# EAGLE library part PHB_1MM27_2X25_* (library _hhn_con_pinhead_box_1mm27)
Pin Header Box-Type, 1.27mm/0.5"/50mil Pitch, 2x25 Circuits Note: see library description for an important note about THT-version
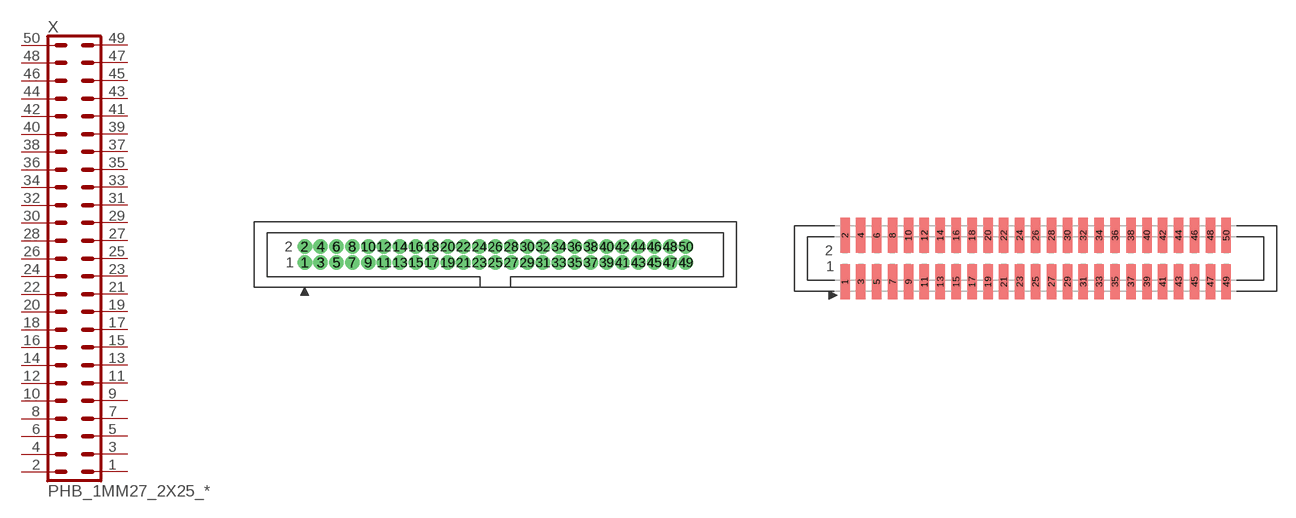
[diagram p6: symbol with the pads of PHB_1MM27_2X25_SNT; footprints PHB_1MM27_2X25_SNT, PHB_1MM27_2X25_SNS]

Designator prefix X

## PHB_1MM27_2X25_SNT  [PHB_1MM27_2X25_SNT]
1  1  pas
2  2  pas
3  3  pas
4  4  pas
5  5  pas
6  6  pas
7  7  pas
8  8  pas
9  9  pas
10  10  pas
11  11  pas
12  12  pas
13  13  pas
14  14  pas
15  15  pas
16  16  pas
17  17  pas
18  18  pas
19  19  pas
20  20  pas
21  21  pas
22  22  pas
23  23  pas
24  24  pas
25  25  pas
26  26  pas
27  27  pas
28  28  pas
29  29  pas
30  30  pas
31  31  pas
32  32  pas
33  33  pas
34  34  pas
35  35  pas
36  36  pas
37  37  pas
38  38  pas
39  39  pas
40  40  pas
41  41  pas
42  42  pas
43  43  pas
44  44  pas
45  45  pas
46  46  pas
47  47  pas
48  48  pas
49  49  pas
50  50  pas

## PHB_1MM27_2X25_SNS  [PHB_1MM27_2X25_SNS]
Pads as for PHB_1MM27_2X25_SNT

## Footprint PHB_1MM27_2X25_SNT (pad centres in mm)
Pin Header Box-Type, 1.27mm Pitch, 2x25 circuits, Straight, No Locking, THT Important Note regarding to THT-versions: see description of library
drill 0.65 round: 1 -15.24,-0.635; 2 -15.24,0.635; 3 -13.97,-0.635; 4 -13.97,0.635; 5 -12.7,-0.635; 6 -12.7,0.635; 7 -11.43,-0.635; 8 -11.43,0.635; 9 -10.16,-0.635; 10 -10.16,0.635; 11 -8.89,-0.635; 12 -8.89,0.635; 13 -7.62,-0.635; 14 -7.62,0.635; 15 -6.35,-0.635; 16 -6.35,0.635; 17 -5.08,-0.635; 18 -5.08,0.635; 19 -3.81,-0.635; 20 -3.81,0.635; 21 -2.54,-0.635; 22 -2.54,0.635; 23 -1.27,-0.635; 24 -1.27,0.635; 25 0,-0.635; 26 0,0.635; 27 1.27,-0.635; 28 1.27,0.635; 29 2.54,-0.635; 30 2.54,0.635; 31 3.81,-0.635; 32 3.81,0.635; 33 5.08,-0.635; 34 5.08,0.635; 35 6.35,-0.635; 36 6.35,0.635; 37 7.62,-0.635; 38 7.62,0.635; 39 8.89,-0.635; 40 8.89,0.635; 41 10.16,-0.635; 42 10.16,0.635; 43 11.43,-0.635; 44 11.43,0.635; 45 12.7,-0.635; 46 12.7,0.635; 47 13.97,-0.635; 48 13.97,0.635; 49 15.24,-0.635; 50 15.24,0.635

## Footprint PHB_1MM27_2X25_SNS (pad centres in mm)
Pin Header Box-Type, 1.27mm Pitch, 2x25 circuits, Straight, No Locking, SMT
smd 0.76 x 2.8: 1 -15.24,-1.85; 2 -15.24,1.85; 3 -13.97,-1.85; 4 -13.97,1.85; 5 -12.7,-1.85; 6 -12.7,1.85; 7 -11.43,-1.85; 8 -11.43,1.85; 9 -10.16,-1.85; 10 -10.16,1.85; 11 -8.89,-1.85; 12 -8.89,1.85; 13 -7.62,-1.85; 14 -7.62,1.85; 15 -6.35,-1.85; 16 -6.35,1.85; 17 -5.08,-1.85; 18 -5.08,1.85; 19 -3.81,-1.85; 20 -3.81,1.85; 21 -2.54,-1.85; 22 -2.54,1.85; 23 -1.27,-1.85; 24 -1.27,1.85; 25 0,-1.85; 26 0,1.85; 27 1.27,-1.85; 28 1.27,1.85; 29 2.54,-1.85; 30 2.54,1.85; 31 3.81,-1.85; 32 3.81,1.85; 33 5.08,-1.85; 34 5.08,1.85; 35 6.35,-1.85; 36 6.35,1.85; 37 7.62,-1.85; 38 7.62,1.85; 39 8.89,-1.85; 40 8.89,1.85; 41 10.16,-1.85; 42 10.16,1.85; 43 11.43,-1.85; 44 11.43,1.85; 45 12.7,-1.85; 46 12.7,1.85; 47 13.97,-1.85; 48 13.97,1.85; 49 15.24,-1.85; 50 15.24,1.85